# EAGLE library part NC5?-SW (library con-neutrik_ag)
Neutrik Audio Connector XLR SERIES Stereo 1/4" jack Source: www.neutrik.com/
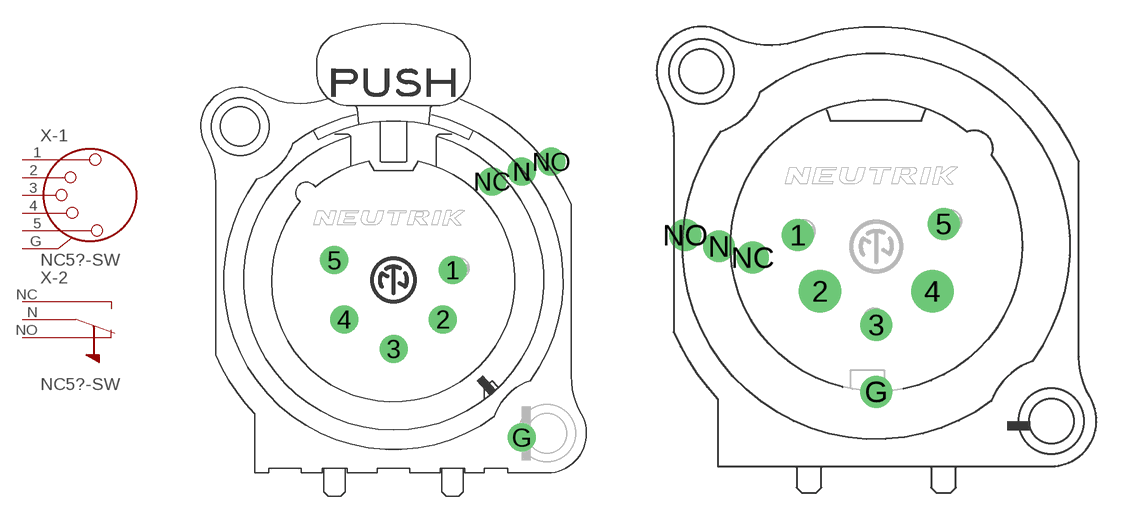
[diagram p0: symbol with the pads of NC5FAV-SW; footprints NC5FAV-SW, NC5MAV-SW]

Designator prefix X; gates -1=NC5-G -2=SW

## NC5FAV-SW (MF: NEUTRIK; MPN: NC5FAV-SW; OC_FARNELL: unknown)  [NC5FAV-SW]
1  -1:1  pas
2  -1:2  pas
3  -1:3  pas
4  -1:4  pas
5  -1:5  pas
G  -1:G  pas
N  -2:N  pas
NC  -2:NC  pas
NO  -2:NO  pas

## NC5MAV-SW (MF: NETRIK; MPN: NC5MAV-SW; OC_FARNELL: unknown)  [NC5MAV-SW]
Pads as for NC5FAV-SW

## Footprint NC5FAV-SW (pad centres in mm)
Neutrik Audio Connector Source: www.neutrik.com/... 210_291701.pdf
drill 1.2: 1 3.81,0.635; 2 3.175,-2.54; 3 0,-4.445; 4 -3.175,-2.54; 5 -3.81,1.27; G 8.255,-10.16; N 8.255,6.985; NC 6.35,6.35; NO 10.16,7.62

## Footprint NC5MAV-SW (pad centres in mm)
Neutrik Audio Connector Source: www.neutrik.com/... 210_257601.pdf
drill 1.2: 1 -4.445,0.635; 3 0,-4.445; 5 3.81,1.27; G 0,-8.225; N -8.89,0; NC -6.985,-0.635; NO -10.795,0.635
drill 1.6: 2 -3.175,-2.54; 4 3.175,-2.54